# Altium schematic symbol library CPU_NXP_IMX.SchLib: 18 symbols (part 4 of 4)
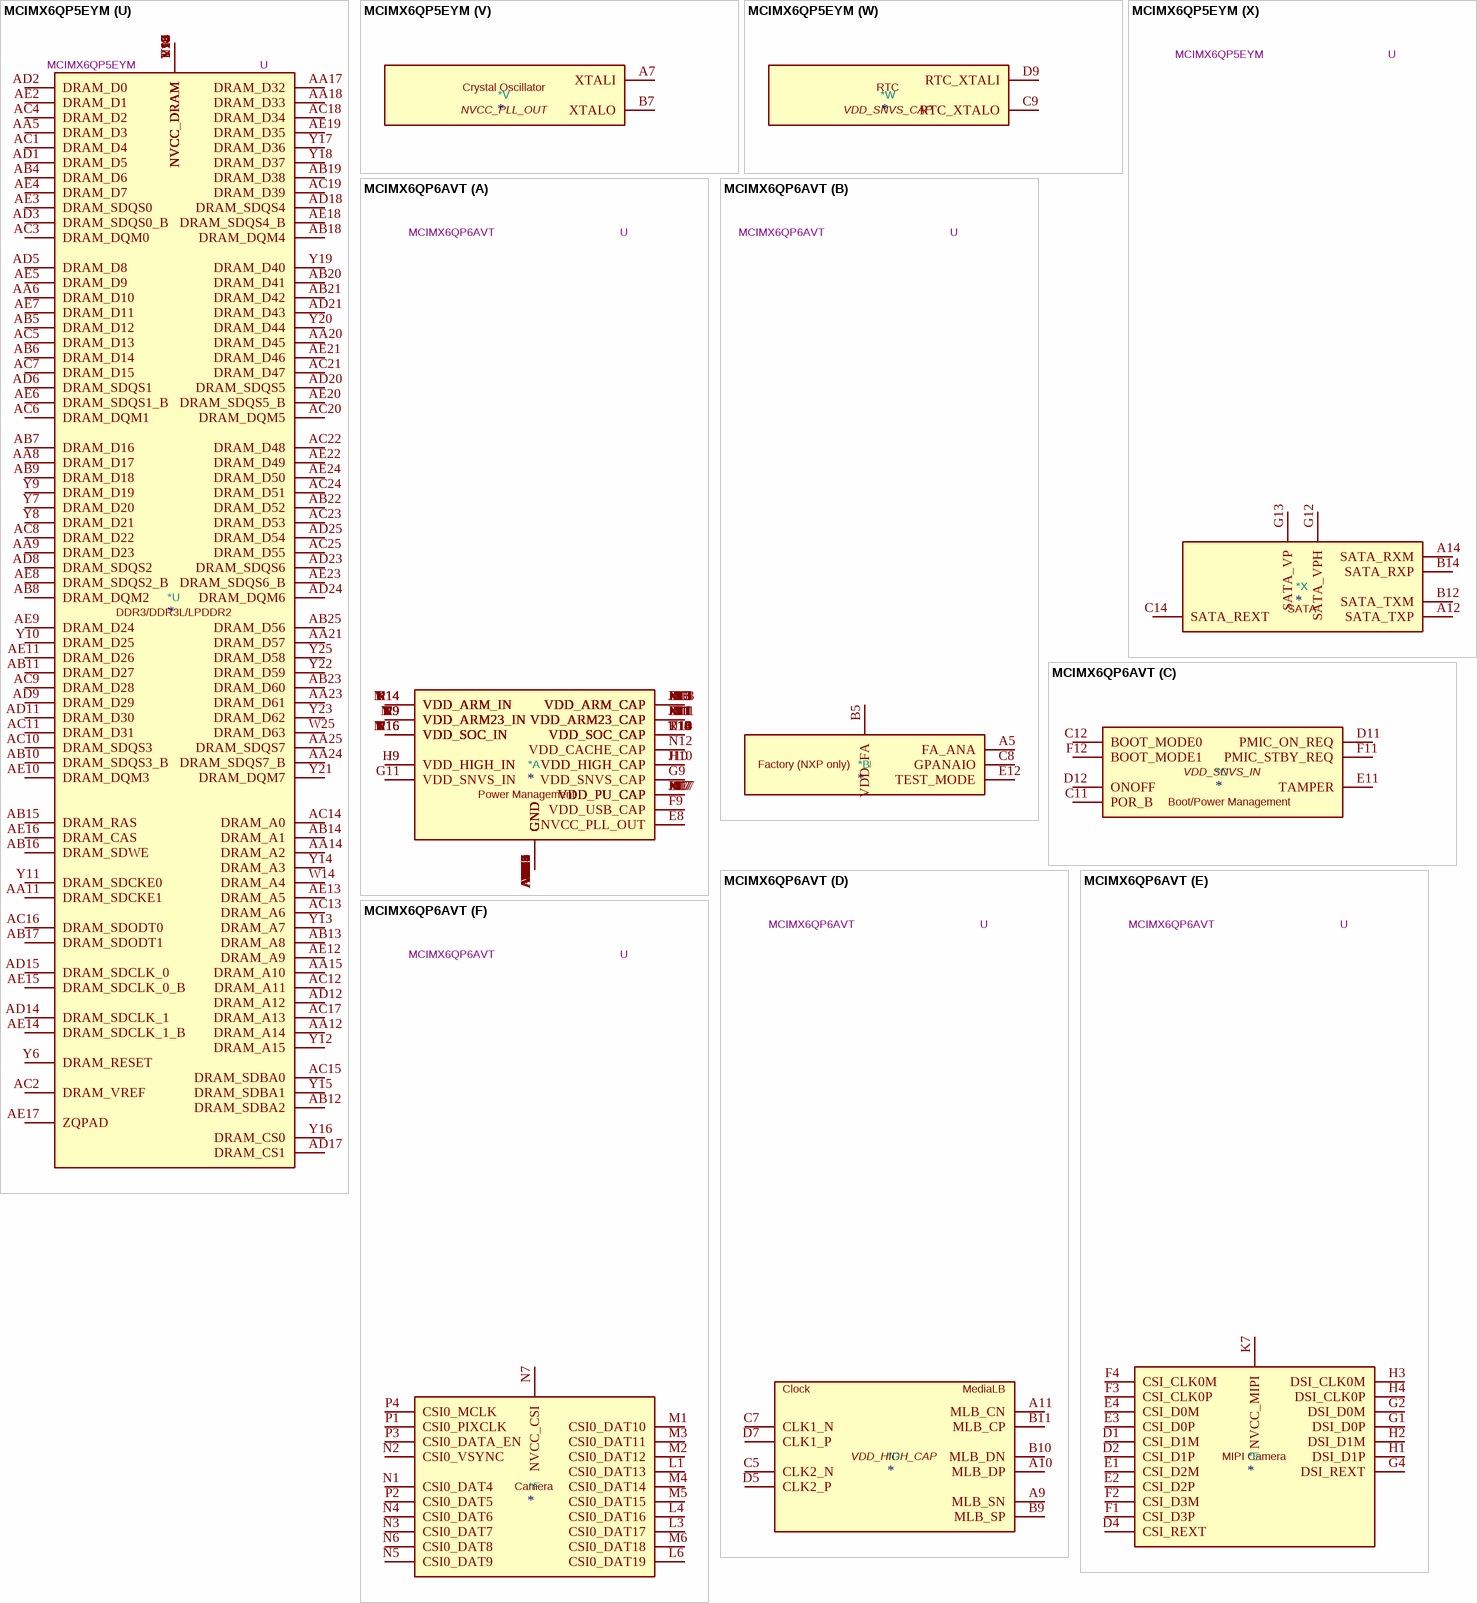
[diagram p57: symbols MCIMX6QP5EYM to MCIMX6QP6AVT]

## MCIMX6QP5EYM
designator *  value MCIMX6QP5EYM  Reference: U
i.MX 6QuadPlus Application Processor for Consumer Products, BGA-624; ki_keywords: Quad-Core ARM Cortex A9 SOC; ki_fp_filters: BGA*21x21mm*Layout25x25*P0.8mm*; Footprint: Package_BGA:BGA-624_21x21mm_Layout25x25_P0.8mm; Datasheet: https://www.nxp.com/docs/en/data-sheet/IMX6DQPCEC.pdf; Description_: i.MX 6QuadPlus Application Processor for Consumer Products, BGA-624
part A pins: A4 GND, A8 GND, A13 GND, A25 GND, AA7 GND, AA10 GND, AA13 GND, AA16 GND, AA19 GND, AA22 GND, AB3 GND, AB24 GND, AD4 GND, AD7 GND, AD10 GND, AD13 GND, AD16 GND, AD19 GND, AD22 GND, AE1 GND, AE25 GND, B4 GND, C1 GND, C4 GND, C6 GND, C10 GND, D3 GND, D6 GND, D8 GND, E5 GND, E6 GND, E7 GND, E8 NVCC_PLL_OUT, F5 GND, F6 GND, F7 GND, F8 GND, F9 VDD_USB_CAP, G3 GND, G9 VDD_SNVS_CAP, G10 GND, G11 VDD_SNVS_IN, G19 GND, H8 GND, H9 VDD_HIGH_IN, H10 VDD_HIGH_CAP, H11 VDD_ARM23_CAP, H12 GND, H13 VDD_ARM_CAP, H14 VDD_ARM_IN, H15 GND, H16 VDD_SOC_IN, H17 VDD_PU_CAP, H18 GND, J2 GND, J8 GND, J9 VDD_HIGH_IN, J10 VDD_HIGH_CAP, J11 VDD_ARM23_CAP, J12 GND, J13 VDD_ARM_CAP, J14 VDD_ARM_IN, J15 GND, J16 VDD_SOC_IN, J17 VDD_PU_CAP, J18 GND, K8 GND, K9 VDD_ARM23_IN, K10 GND, K11 VDD_ARM23_CAP, K12 GND, K13 VDD_ARM_CAP, K14 VDD_ARM_IN, K15 GND, K16 VDD_SOC_IN, K17 VDD_PU_CAP, K18 GND, L2 GND, L5 GND, L8 GND, L9 VDD_ARM23_IN, L10 GND, L11 VDD_ARM23_CAP, L12 GND, L13 VDD_ARM_CAP, L14 VDD_ARM_IN, L15 GND, L16 VDD_SOC_IN, L17 VDD_PU_CAP, L18 GND, M8 GND, M9 VDD_ARM23_IN, M10 GND, M11 VDD_ARM23_CAP, M12 GND, M13 VDD_ARM_CAP, M14 VDD_ARM_IN, M15 GND, M16 VDD_SOC_IN, M17 VDD_PU_CAP, M18 GND, N8 GND, N9 VDD_ARM23_IN, N10 GND, N11 VDD_ARM23_CAP, N12 VDD_CACHE_CAP, N13 VDD_ARM_CAP, N14 VDD_ARM_IN, N15 GND, N16 VDD_SOC_IN, N17 VDD_PU_CAP, N18 GND, P8 GND, P9 VDD_ARM23_IN, P10 GND, P11 VDD_ARM23_CAP, P12 GND, P13 VDD_ARM_CAP, P14 VDD_ARM_IN, P15 GND, P16 VDD_SOC_IN, P17 VDD_PU_CAP, P18 GND, R8 GND, R9 VDD_ARM23_IN, R10 VDD_SOC_CAP, R11 VDD_ARM23_CAP, R12 GND, R13 VDD_ARM_CAP, R14 VDD_ARM_IN, R15 GND, R16 VDD_SOC_IN, R17 GND, T8 GND, T9 VDD_ARM23_IN, T10 VDD_SOC_CAP, T11 GND, T12 GND, T13 VDD_SOC_CAP, T14 VDD_SOC_CAP, T15 GND, T16 VDD_SOC_IN, T17 GND, T19 GND, U8 GND, U9 VDD_ARM23_IN, U10 VDD_SOC_CAP, U11 GND, U12 GND, U13 VDD_SOC_CAP, U14 VDD_SOC_CAP, U15 GND, U16 VDD_SOC_IN, U17 GND, U19 GND, V8 GND, V19 GND, W3 GND, W7 GND, W8 GND, W9 GND, W10 GND, W11 GND, W12 GND, W13 GND, W15 GND, W16 GND, W17 GND, W18 GND, W19 GND, Y5 GND, Y24 GND
part B pins: A5 FA_ANA, B5 VDD_FA, C8 GPANAIO, E12 TEST_MODE
part C pins: C11 POR_B, C12 BOOT_MODE0, D11 PMIC_ON_REQ, D12 ONOFF, E11 TAMPER, F11 PMIC_STBY_REQ, F12 BOOT_MODE1
part D pins: A9 MLB_SN, A10 MLB_DP, A11 MLB_CN, B9 MLB_SP, B10 MLB_DN, B11 MLB_CP, C5 CLK2_N, C7 CLK1_N, D5 CLK2_P, D7 CLK1_P
part E pins: D1 CSI_D1M, D2 CSI_D1P, D4 CSI_REXT, E1 CSI_D2M, E2 CSI_D2P, E3 CSI_D0P, E4 CSI_D0M, F1 CSI_D3P, F2 CSI_D3M, F3 CSI_CLK0P, F4 CSI_CLK0M, G1 DSI_D0P, G2 DSI_D0M, G4 DSI_REXT, H1 DSI_D1P, H2 DSI_D1M, H3 DSI_CLK0M, H4 DSI_CLK0P, K7 NVCC_MIPI
part F pins: L1 CSI0_DAT13, L3 CSI0_DAT17, L4 CSI0_DAT16, L6 CSI0_DAT19, M1 CSI0_DAT10, M2 CSI0_DAT12, M3 CSI0_DAT11, M4 CSI0_DAT14, M5 CSI0_DAT15, M6 CSI0_DAT18, N1 CSI0_DAT4, N2 CSI0_VSYNC, N3 CSI0_DAT7, N4 CSI0_DAT6, N5 CSI0_DAT9, N6 CSI0_DAT8, N7 NVCC_CSI, P1 CSI0_PIXCLK, P2 CSI0_DAT5, P3 CSI0_DATA_EN, P4 CSI0_MCLK
part G pins: N19 DI0_DISP_CLK, N20 DI0_PIN3, N21 DI0_PIN15, N25 DI0_PIN2, P19 NVCC_LCD, P20 DISP0_DAT4, P21 DISP0_DAT3, P22 DISP0_DAT1, P23 DISP0_DAT2, P24 DISP0_DAT0, P25 DI0_PIN4, R20 DISP0_DAT13, R21 DISP0_DAT10, R22 DISP0_DAT8, R23 DISP0_DAT6, R24 DISP0_DAT7, R25 DISP0_DAT5, T20 DISP0_DAT21, T21 DISP0_DAT16, T22 DISP0_DAT15, T23 DISP0_DAT11, T24 DISP0_DAT12, T25 DISP0_DAT9, U22 DISP0_DAT20, U23 DISP0_DAT19, U24 DISP0_DAT17, U25 DISP0_DAT14, V24 DISP0_DAT22, V25 DISP0_DAT18, W24 DISP0_DAT23
part H pins: C25 EIM_D16, D24 EIM_D18, D25 EIM_D23, E22 EIM_EB2, E23 EIM_D22, E24 EIM_D26, E25 EIM_D27, F21 EIM_D17, F22 EIM_D24, F23 EIM_EB3, F24 EIM_A22, F25 EIM_A24, G20 EIM_D20, G21 EIM_D19, G22 EIM_D25, G23 EIM_D28, G24 EIM_A17, G25 EIM_A19, H19 EIM_A25, H20 EIM_D21, H21 EIM_D31, H22 EIM_A20, H23 EIM_A21, H24 EIM_CS0, H25 EIM_A16, J19 EIM_D29, J20 EIM_D30, J21 EIM_A23, J22 EIM_A18, J23 EIM_CS1, J24 EIM_OE, J25 EIM_DA1, K19 NVCC_EIM0, K20 EIM_RW, K21 EIM_EB0, K22 EIM_LBA, K23 EIM_EB1, K24 EIM_DA3, K25 EIM_DA6, L19 NVCC_EIM1, L20 EIM_DA0, L21 EIM_DA2, L22 EIM_DA4, L23 EIM_DA5, L24 EIM_DA8, L25 EIM_DA7, M19 NVCC_EIM2, M20 EIM_DA11, M21 EIM_DA9, M22 EIM_DA10, M23 EIM_DA13, M24 EIM_DA12, M25 EIM_WAIT, N22 EIM_BCLK, N23 EIM_DA14, N24 EIM_DA15
part I pins: R19 NVCC_ENET, U20 ENET_TXD0, U21 ENET_CRS_DV, V20 ENET_MDC, V21 ENET_TX_EN, V22 ENET_REF_CLK, V23 ENET_MDIO, W20 ENET_TXD1, W21 ENET_RXD0, W22 ENET_RXD1, W23 ENET_RX_ER
part J pins: P5 GPIO_19, P6 GPIO_18, P7 NVCC_GPIO, R1 GPIO_17, R2 GPIO_16, R3 GPIO_7, R4 GPIO_5, R5 GPIO_8, R6 GPIO_4, R7 GPIO_3, T1 GPIO_2, T2 GPIO_9, T3 GPIO_6, T4 GPIO_1, T5 GPIO_0, T6 KEY_COL4, T7 KEY_ROW3, U5 KEY_COL3, U6 KEY_ROW1, U7 KEY_COL1, V5 KEY_ROW4, V6 KEY_ROW0, W4 KEY_ROW2, W5 KEY_COL0, W6 KEY_COL2
part K pins: J1 HDMI_REF, J3 HDMI_D1M, J4 HDMI_D1P, J5 HDMI_CLKM, J6 HDMI_CLKP, K1 HDMI_HPD, K2 HDMI_DDCCEC, K3 HDMI_D2M, K4 HDMI_D2P, K5 HDMI_D0M, K6 HDMI_D0P, L7 HDMI_VP, M7 HDMI_VPH
part L pins: C2 JTAG_TRSTB, C3 JTAG_TMS, G5 JTAG_TDI, G6 JTAG_TDO, H5 JTAG_TCK, H6 JTAG_MOD, J7 NVCC_JTAG
part M pins: AA1 LVDS1_TX1_P, AA2 LVDS1_TX1_N, AA3 LVDS1_TX3_N, AA4 LVDS1_TX3_P, AB1 LVDS1_TX2_N, AB2 LVDS1_TX2_P, U1 LVDS0_TX0_P, U2 LVDS0_TX0_N, U3 LVDS0_TX1_P, U4 LVDS0_TX1_N, V1 LVDS0_TX2_P, V2 LVDS0_TX2_N, V3 LVDS0_CLK_P, V4 LVDS0_CLK_N, V7 NVCC_LVDS2P5, W1 LVDS0_TX3_P, W2 LVDS0_TX3_N, Y1 LVDS1_TX0_N, Y2 LVDS1_TX0_P, Y3 LVDS1_CLK_N, Y4 LVDS1_CLK_P
part N pins: A16 NANDF_ALE, A17 NANDF_CS2, A18 NANDF_D0, A19 NANDF_D4, A20 SD4_DAT3, B16 NANDF_RB0, B17 SD4_CMD, B18 NANDF_D5, B19 SD4_DAT1, B20 SD4_DAT6, C15 NANDF_CLE, C16 NANDF_CS1, C17 NANDF_D1, C18 NANDF_D7, C19 SD4_DAT5, D16 NANDF_CS3, D17 NANDF_D3, D18 SD4_DAT0, D19 SD4_DAT7, E15 NANDF_WP_B, E16 SD4_CLK, E17 NANDF_D6, E18 SD4_DAT4, F15 NANDF_CS0, F16 NANDF_D2, F17 SD4_DAT2, G15 NVCC_NANDF
part O pins: A2 PCIE_REXT, A3 PCIE_TXM, B1 PCIE_RXM, B2 PCIE_RXP, B3 PCIE_TXP, G7 PCIE_VPH, G8 PCIE_VPTX, H7 PCIE_VP
part P pins: A6 USB_OTG_DP, B6 USB_OTG_DN, B8 USB_OTG_CHD_B, D10 USB_H1_VBUS, E9 USB_OTG_VBUS, E10 USB_H1_DP, F10 USB_H1_DN
part Q pins: A24 RGMII_TD3, B23 RGMII_RD1, B24 RGMII_RD2, B25 RGMII_RXC, C22 RGMII_TD0, C23 RGMII_TX_CTL, C24 RGMII_RD0, D21 RGMII_TXC, D22 RGMII_RX_CTL, D23 RGMII_RD3, E21 RGMII_TD2, F20 RGMII_TD1, G18 NVCC_RGMII
part R pins: A21 SD1_DAT0, B21 SD1_CMD, C20 SD1_DAT1, D20 SD1_CLK, E19 SD1_DAT2, F18 SD1_DAT3, G16 NVCC_SD1
part S pins: A22 SD2_DAT0, A23 SD2_DAT2, B22 SD2_DAT3, C21 SD2_CLK, E20 SD2_DAT1, F19 SD2_CMD, G17 NVCC_SD2
part T pins: A15 SD3_DAT2, B13 SD3_CMD, B15 SD3_DAT3, C13 SD3_DAT5, D13 SD3_DAT4, D14 SD3_CLK, D15 SD3_RST, E13 SD3_DAT6, E14 SD3_DAT0, F13 SD3_DAT7, F14 SD3_DAT1, G14 NVCC_SD3
part U pins: AA5 DRAM_D3, AA6 DRAM_D10, AA8 DRAM_D17, AA9 DRAM_D23, AA11 DRAM_SDCKE1, AA12 DRAM_A14, AA14 DRAM_A2, AA15 DRAM_A10, AA17 DRAM_D32, AA18 DRAM_D33, AA20 DRAM_D45, AA21 DRAM_D57, AA23 DRAM_D61, AA24 DRAM_SDQS7_B, AA25 DRAM_SDQS7, AB4 DRAM_D6, AB5 DRAM_D12, AB6 DRAM_D14, AB7 DRAM_D16, AB8 DRAM_DQM2, AB9 DRAM_D18, AB10 DRAM_SDQS3_B, AB11 DRAM_D27, AB12 DRAM_SDBA2, AB13 DRAM_A8, AB14 DRAM_A1, AB15 DRAM_RAS, AB16 DRAM_SDWE, AB17 DRAM_SDODT1, AB18 DRAM_DQM4, AB19 DRAM_D38, AB20 DRAM_D41, AB21 DRAM_D42, AB22 DRAM_D52, AB23 DRAM_D60, AB25 DRAM_D56, AC1 DRAM_D4, AC2 DRAM_VREF, AC3 DRAM_DQM0, AC4 DRAM_D2, AC5 DRAM_D13, AC6 DRAM_DQM1, AC7 DRAM_D15, AC8 DRAM_D22, AC9 DRAM_D28, AC10 DRAM_SDQS3, AC11 DRAM_D31, AC12 DRAM_A11, AC13 DRAM_A6, AC14 DRAM_A0, AC15 DRAM_SDBA0, AC16 DRAM_SDODT0, AC17 DRAM_A13, AC18 DRAM_D34, AC19 DRAM_D39, AC20 DRAM_DQM5, AC21 DRAM_D47, AC22 DRAM_D48, AC23 DRAM_D53, AC24 DRAM_D51, AC25 DRAM_D55, AD1 DRAM_D5, AD2 DRAM_D0, AD3 DRAM_SDQS0_B, AD5 DRAM_D8, AD6 DRAM_SDQS1, AD8 DRAM_SDQS2, AD9 DRAM_D29, AD11 DRAM_D30, AD12 DRAM_A12, AD14 DRAM_SDCLK_1, AD15 DRAM_SDCLK_0, AD17 DRAM_CS1, AD18 DRAM_SDQS4, AD20 DRAM_SDQS5, AD21 DRAM_D43, AD23 DRAM_SDQS6, AD24 DRAM_DQM6, AD25 DRAM_D54, AE2 DRAM_D1, AE3 DRAM_SDQS0, AE4 DRAM_D7, AE5 DRAM_D9, AE6 DRAM_SDQS1_B, AE7 DRAM_D11, AE8 DRAM_SDQS2_B, AE9 DRAM_D24, AE10 DRAM_DQM3, AE11 DRAM_D26, AE12 DRAM_A9, AE13 DRAM_A5, AE14 DRAM_SDCLK_1_B, AE15 DRAM_SDCLK_0_B, AE16 DRAM_CAS, AE17 ZQPAD, AE18 DRAM_SDQS4_B, AE19 DRAM_D35, AE20 DRAM_SDQS5_B, AE21 DRAM_D46, AE22 DRAM_D49, AE23 DRAM_SDQS6_B, AE24 DRAM_D50, R18 NVCC_DRAM, T18 NVCC_DRAM, U18 NVCC_DRAM, V9 NVCC_DRAM, V10 NVCC_DRAM, V11 NVCC_DRAM, V12 NVCC_DRAM, V13 NVCC_DRAM, V14 NVCC_DRAM, V15 NVCC_DRAM, V16 NVCC_DRAM, V17 NVCC_DRAM, V18 NVCC_DRAM, W14 DRAM_A4, W25 DRAM_D63, Y6 DRAM_RESET, Y7 DRAM_D20, Y8 DRAM_D21, Y9 DRAM_D19, Y10 DRAM_D25, Y11 DRAM_SDCKE0, Y12 DRAM_A15, Y13 DRAM_A7, Y14 DRAM_A3, Y15 DRAM_SDBA1, Y16 DRAM_CS0, Y17 DRAM_D36, Y18 DRAM_D37, Y19 DRAM_D40, Y20 DRAM_D44, Y21 DRAM_DQM7, Y22 DRAM_D59, Y23 DRAM_D62, Y25 DRAM_D58
part V pins: A7 XTALI, B7 XTALO
part W pins: C9 RTC_XTALO, D9 RTC_XTALI
part X pins: A12 SATA_TXP, A14 SATA_RXM, B12 SATA_TXM, B14 SATA_RXP, C14 SATA_REXT, G12 SATA_VPH, G13 SATA_VP
part A text: Power Management
part B text: Factory (NXP only)
part C text: Boot/Power Management
part D text: Clock; MediaLB
part E text: MIPI Camera
part F text: Camera
part G text: LCD Display
part H text: External memory
part I text: 10/100-Mbit Ethernet
part J text: GPIO
part K text: HDMI Display
part L text: JTAG Debug
part M text: LVDS Display
part N text: NAND Flash; SD/MMC
part O text: PCIe 2.0
part P text: HS USB2.0 Host; HS USB2.0 OTG
part Q text: Gigabit Ethernet
part R text: SD/MMC
part S text: SD/MMC
part T text: SD/MMC
part U text: DDR3/DDR3L/LPDDR2
part V text: Crystal Oscillator
part W text: RTC
part X text: SATA

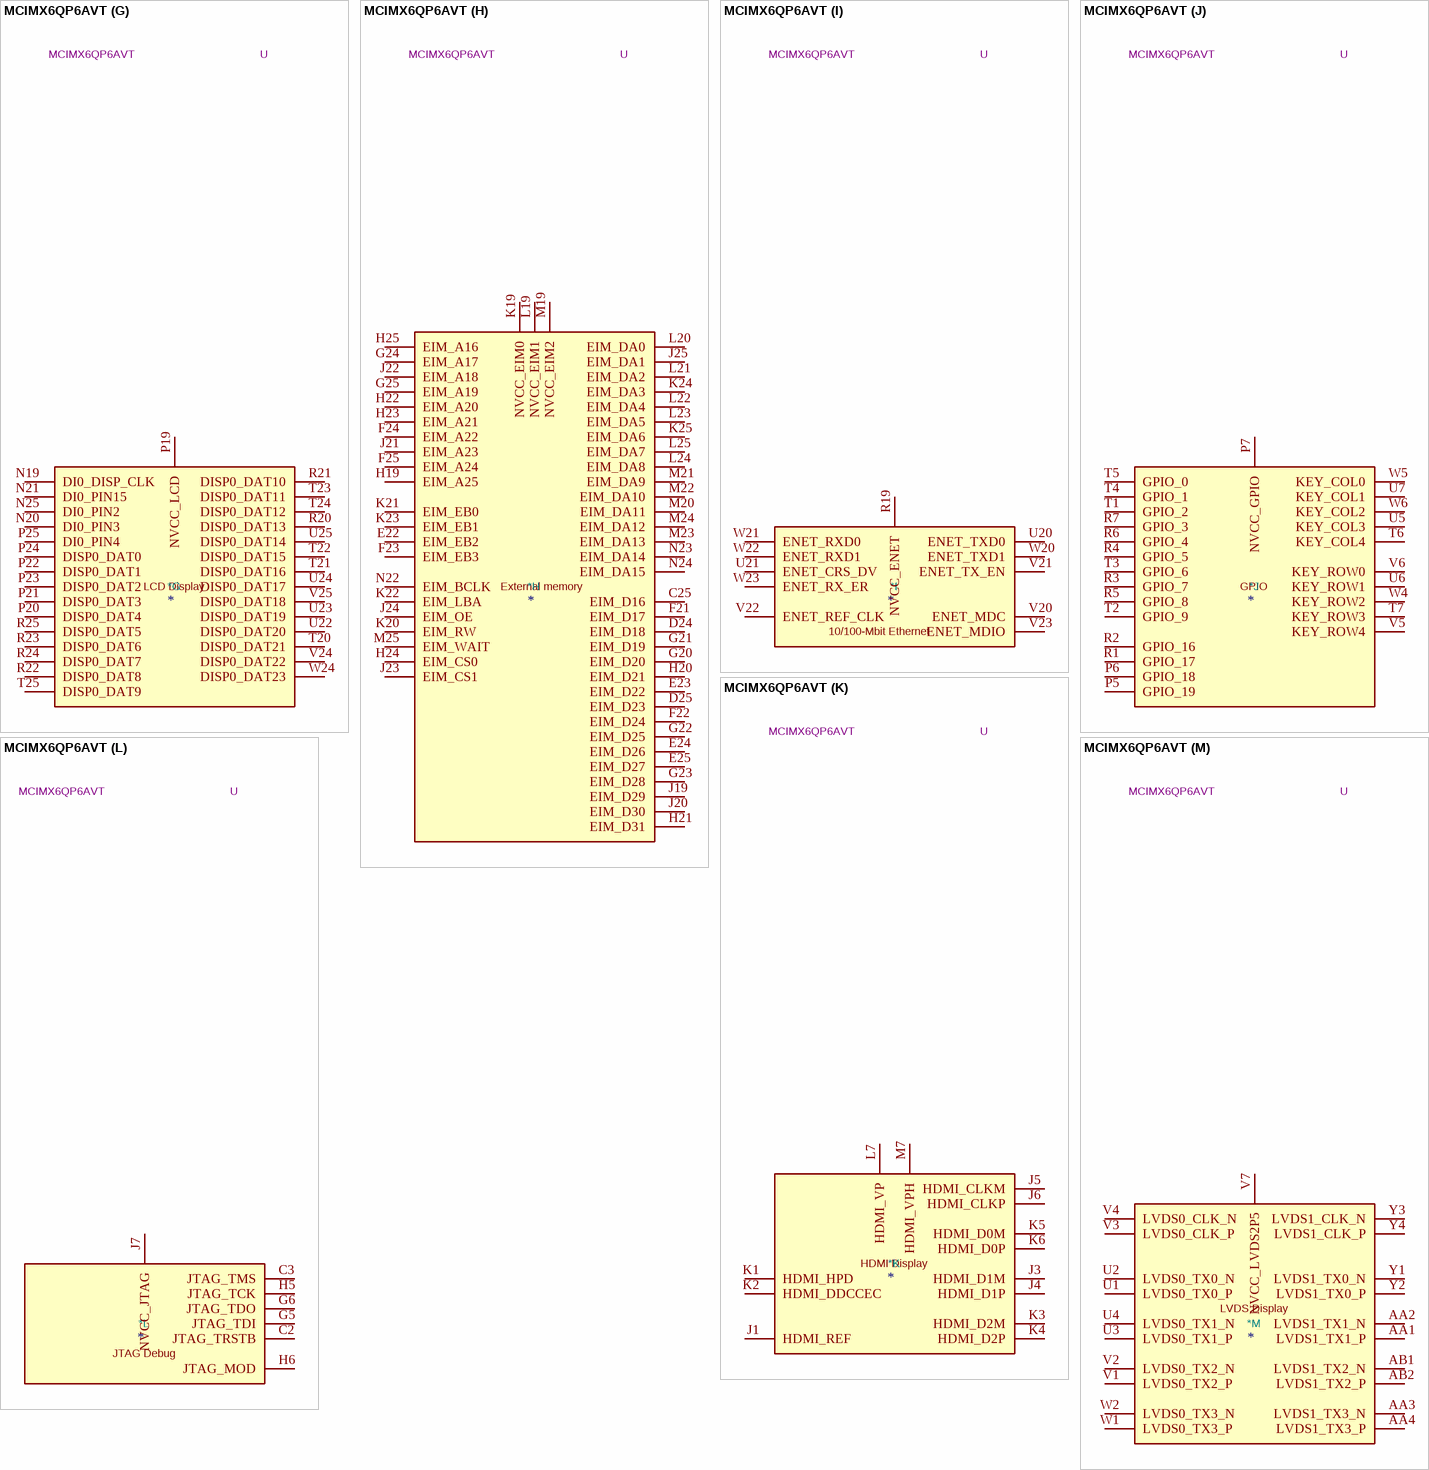
[diagram p49: symbol MCIMX6QP6AVT]

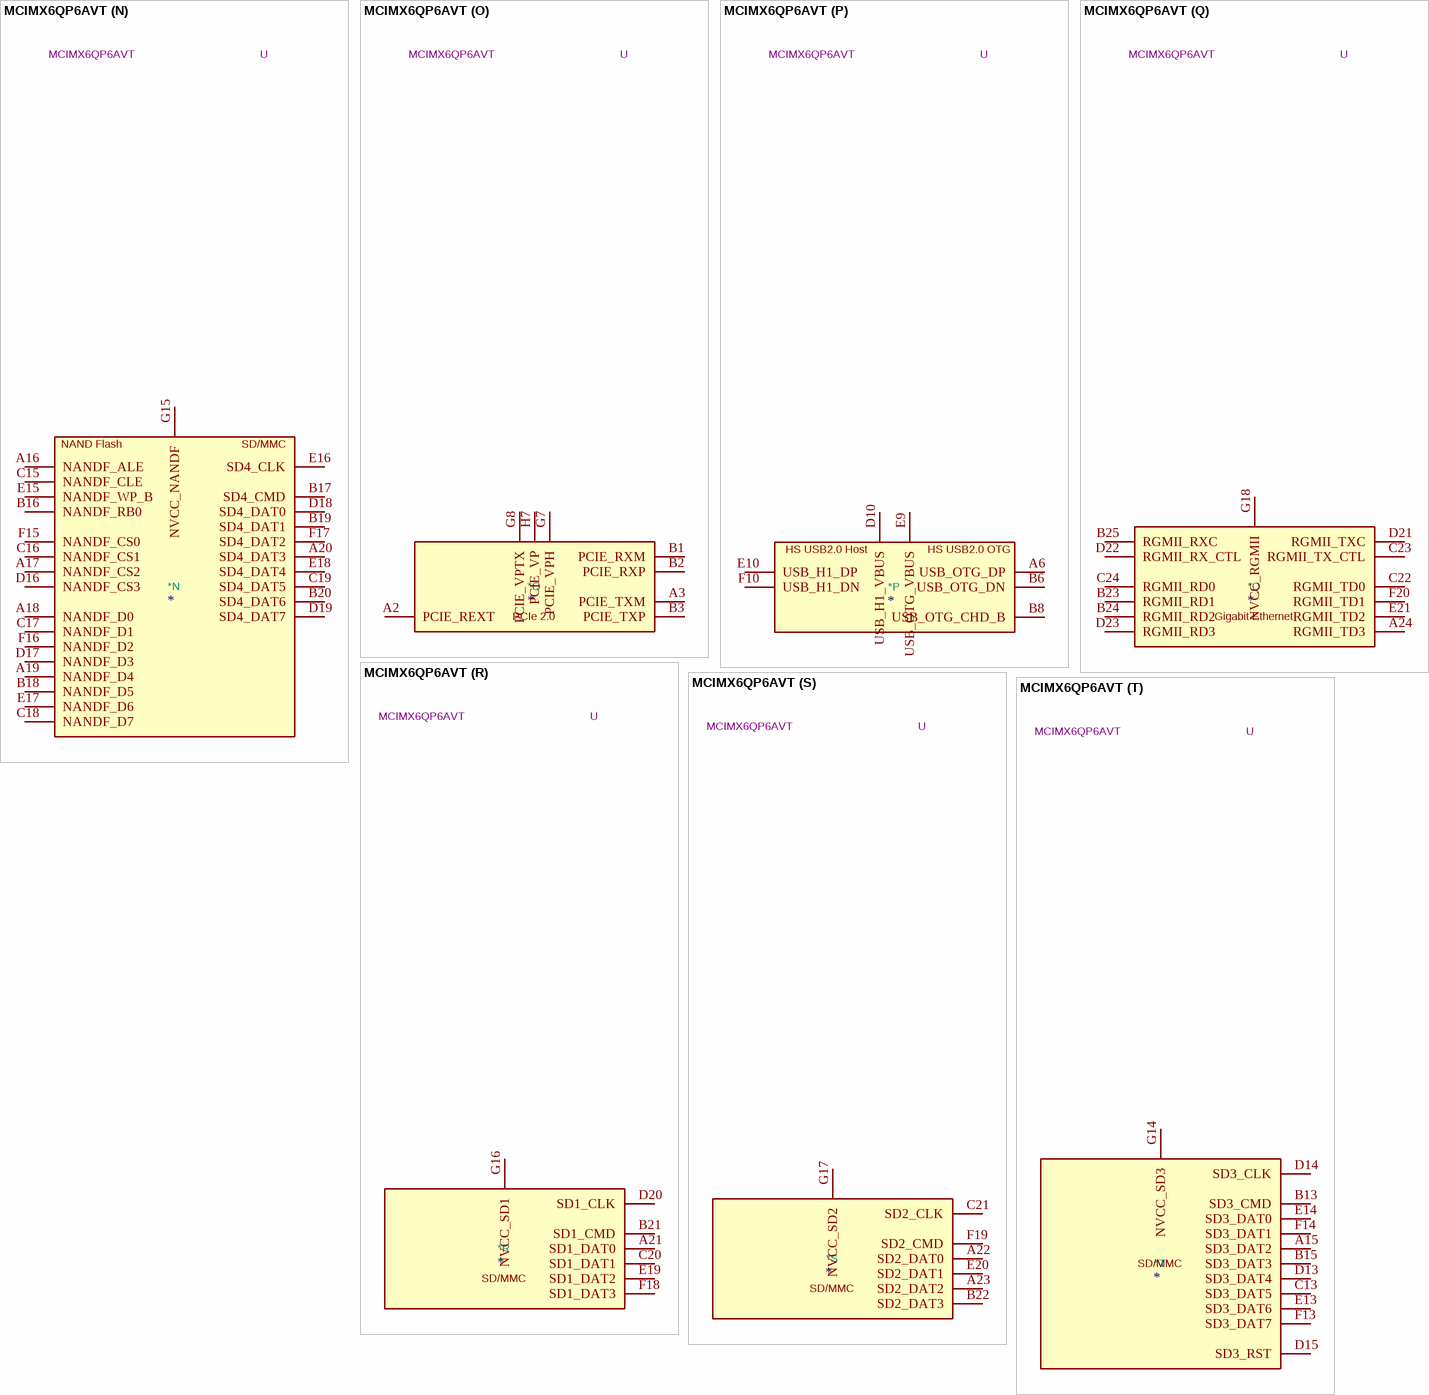
[diagram p50: symbol MCIMX6QP6AVT]

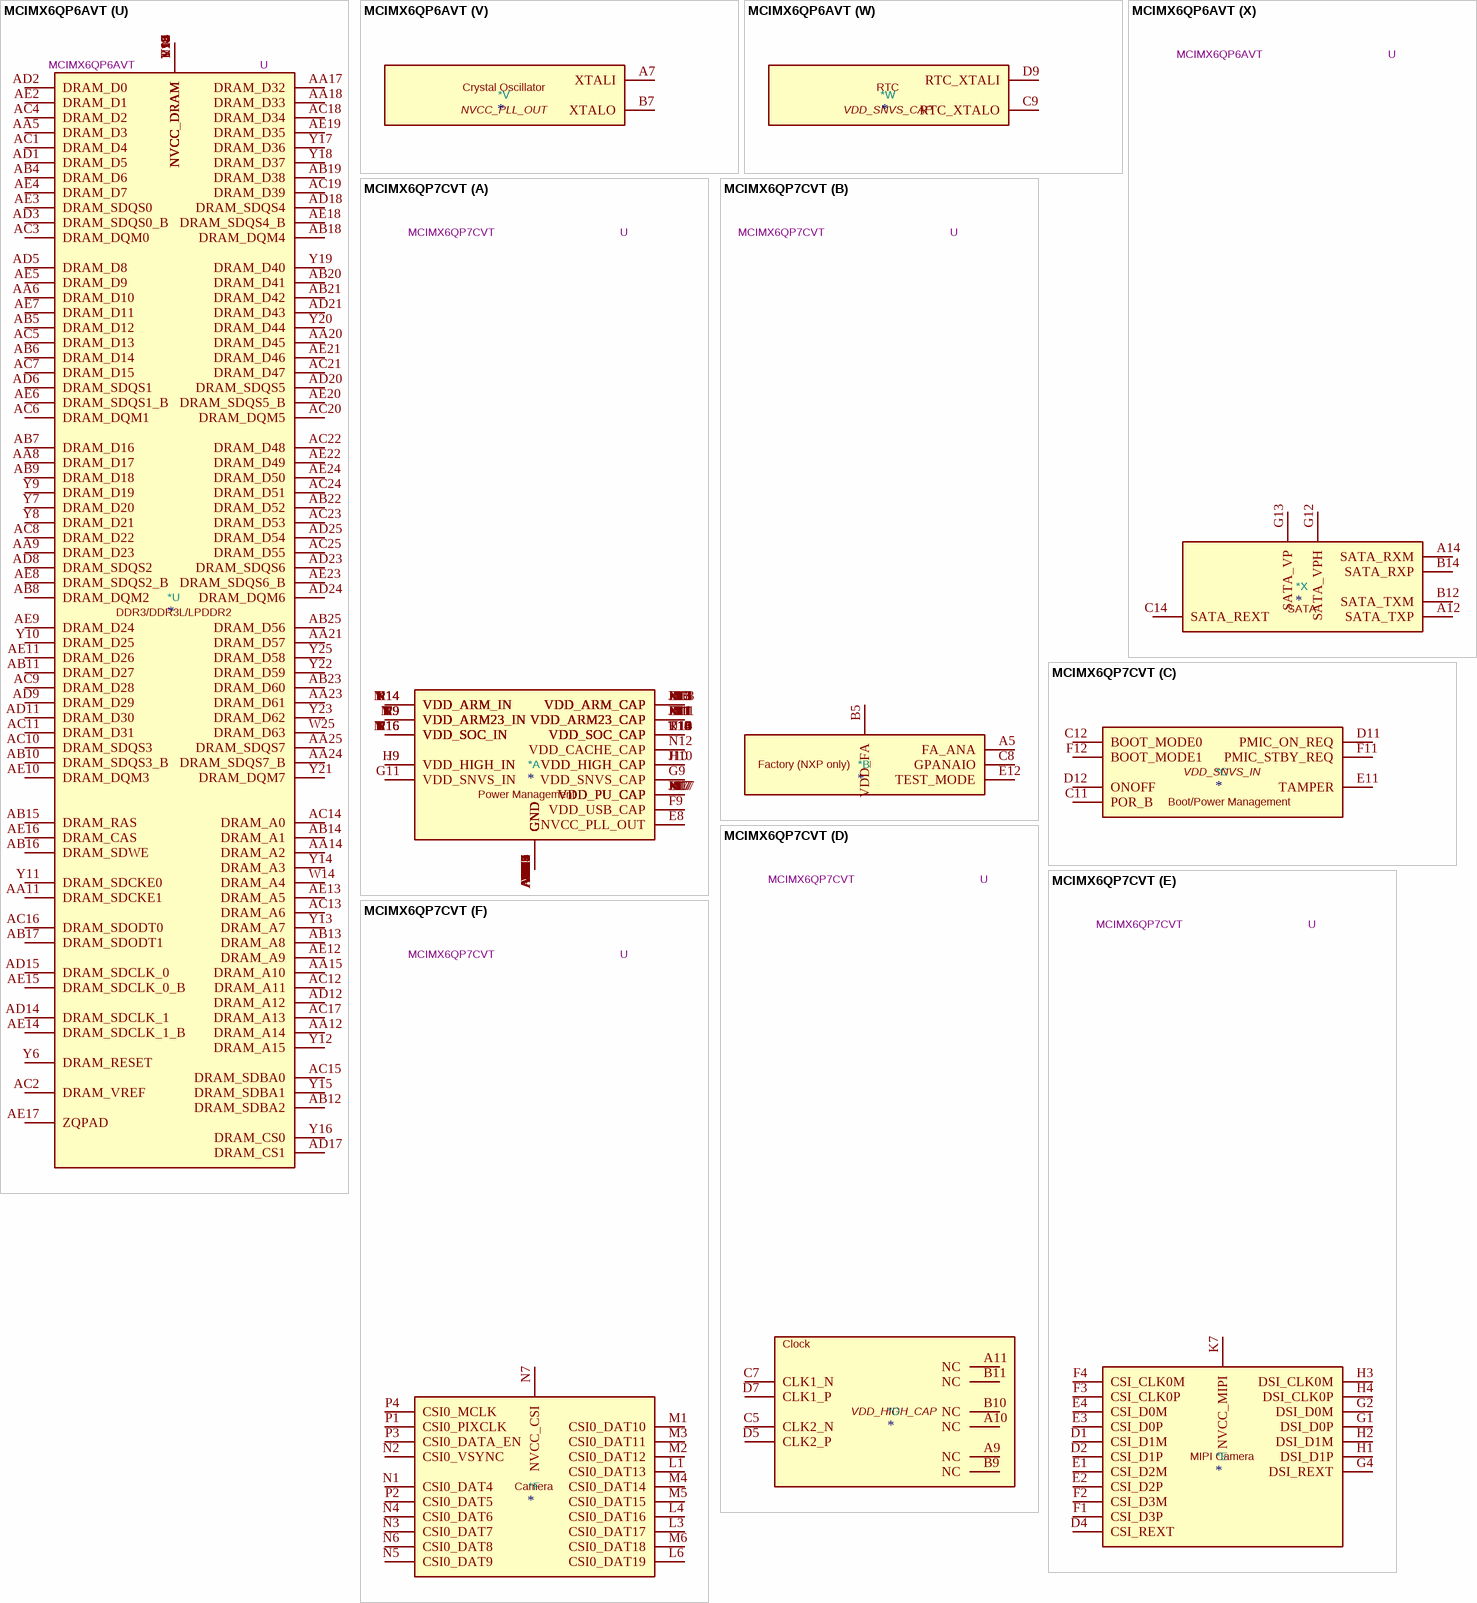
[diagram p51: symbols MCIMX6QP6AVT to MCIMX6QP7CVT]

## MCIMX6QP6AVT
designator *  value MCIMX6QP6AVT  Reference: U
i.MX 6QuadPlus Automotive and Infotainment Application Processor, BGA-624; ki_keywords: Quad-Core ARM Cortex A9 SOC Automotive; ki_fp_filters: BGA*21x21mm*Layout25x25*P0.8mm*; Footprint: Package_BGA:BGA-624_21x21mm_Layout25x25_P0.8mm; Datasheet: https://www.nxp.com/docs/en/data-sheet/IMX6DQPAEC.pdf; Description_: i.MX 6QuadPlus Automotive and Infotainment Application Processor, BGA-624
part A pins: A4 GND, A8 GND, A13 GND, A25 GND, AA7 GND, AA10 GND, AA13 GND, AA16 GND, AA19 GND, AA22 GND, AB3 GND, AB24 GND, AD4 GND, AD7 GND, AD10 GND, AD13 GND, AD16 GND, AD19 GND, AD22 GND, AE1 GND, AE25 GND, B4 GND, C1 GND, C4 GND, C6 GND, C10 GND, D3 GND, D6 GND, D8 GND, E5 GND, E6 GND, E7 GND, E8 NVCC_PLL_OUT, F5 GND, F6 GND, F7 GND, F8 GND, F9 VDD_USB_CAP, G3 GND, G9 VDD_SNVS_CAP, G10 GND, G11 VDD_SNVS_IN, G19 GND, H8 GND, H9 VDD_HIGH_IN, H10 VDD_HIGH_CAP, H11 VDD_ARM23_CAP, H12 GND, H13 VDD_ARM_CAP, H14 VDD_ARM_IN, H15 GND, H16 VDD_SOC_IN, H17 VDD_PU_CAP, H18 GND, J2 GND, J8 GND, J9 VDD_HIGH_IN, J10 VDD_HIGH_CAP, J11 VDD_ARM23_CAP, J12 GND, J13 VDD_ARM_CAP, J14 VDD_ARM_IN, J15 GND, J16 VDD_SOC_IN, J17 VDD_PU_CAP, J18 GND, K8 GND, K9 VDD_ARM23_IN, K10 GND, K11 VDD_ARM23_CAP, K12 GND, K13 VDD_ARM_CAP, K14 VDD_ARM_IN, K15 GND, K16 VDD_SOC_IN, K17 VDD_PU_CAP, K18 GND, L2 GND, L5 GND, L8 GND, L9 VDD_ARM23_IN, L10 GND, L11 VDD_ARM23_CAP, L12 GND, L13 VDD_ARM_CAP, L14 VDD_ARM_IN, L15 GND, L16 VDD_SOC_IN, L17 VDD_PU_CAP, L18 GND, M8 GND, M9 VDD_ARM23_IN, M10 GND, M11 VDD_ARM23_CAP, M12 GND, M13 VDD_ARM_CAP, M14 VDD_ARM_IN, M15 GND, M16 VDD_SOC_IN, M17 VDD_PU_CAP, M18 GND, N8 GND, N9 VDD_ARM23_IN, N10 GND, N11 VDD_ARM23_CAP, N12 VDD_CACHE_CAP, N13 VDD_ARM_CAP, N14 VDD_ARM_IN, N15 GND, N16 VDD_SOC_IN, N17 VDD_PU_CAP, N18 GND, P8 GND, P9 VDD_ARM23_IN, P10 GND, P11 VDD_ARM23_CAP, P12 GND, P13 VDD_ARM_CAP, P14 VDD_ARM_IN, P15 GND, P16 VDD_SOC_IN, P17 VDD_PU_CAP, P18 GND, R8 GND, R9 VDD_ARM23_IN, R10 VDD_SOC_CAP, R11 VDD_ARM23_CAP, R12 GND, R13 VDD_ARM_CAP, R14 VDD_ARM_IN, R15 GND, R16 VDD_SOC_IN, R17 GND, T8 GND, T9 VDD_ARM23_IN, T10 VDD_SOC_CAP, T11 GND, T12 GND, T13 VDD_SOC_CAP, T14 VDD_SOC_CAP, T15 GND, T16 VDD_SOC_IN, T17 GND, T19 GND, U8 GND, U9 VDD_ARM23_IN, U10 VDD_SOC_CAP, U11 GND, U12 GND, U13 VDD_SOC_CAP, U14 VDD_SOC_CAP, U15 GND, U16 VDD_SOC_IN, U17 GND, U19 GND, V8 GND, V19 GND, W3 GND, W7 GND, W8 GND, W9 GND, W10 GND, W11 GND, W12 GND, W13 GND, W15 GND, W16 GND, W17 GND, W18 GND, W19 GND, Y5 GND, Y24 GND
part B pins: A5 FA_ANA, B5 VDD_FA, C8 GPANAIO, E12 TEST_MODE
part C pins: C11 POR_B, C12 BOOT_MODE0, D11 PMIC_ON_REQ, D12 ONOFF, E11 TAMPER, F11 PMIC_STBY_REQ, F12 BOOT_MODE1
part D pins: A9 MLB_SN, A10 MLB_DP, A11 MLB_CN, B9 MLB_SP, B10 MLB_DN, B11 MLB_CP, C5 CLK2_N, C7 CLK1_N, D5 CLK2_P, D7 CLK1_P
part E pins: D1 CSI_D1M, D2 CSI_D1P, D4 CSI_REXT, E1 CSI_D2M, E2 CSI_D2P, E3 CSI_D0P, E4 CSI_D0M, F1 CSI_D3P, F2 CSI_D3M, F3 CSI_CLK0P, F4 CSI_CLK0M, G1 DSI_D0P, G2 DSI_D0M, G4 DSI_REXT, H1 DSI_D1P, H2 DSI_D1M, H3 DSI_CLK0M, H4 DSI_CLK0P, K7 NVCC_MIPI
part F pins: L1 CSI0_DAT13, L3 CSI0_DAT17, L4 CSI0_DAT16, L6 CSI0_DAT19, M1 CSI0_DAT10, M2 CSI0_DAT12, M3 CSI0_DAT11, M4 CSI0_DAT14, M5 CSI0_DAT15, M6 CSI0_DAT18, N1 CSI0_DAT4, N2 CSI0_VSYNC, N3 CSI0_DAT7, N4 CSI0_DAT6, N5 CSI0_DAT9, N6 CSI0_DAT8, N7 NVCC_CSI, P1 CSI0_PIXCLK, P2 CSI0_DAT5, P3 CSI0_DATA_EN, P4 CSI0_MCLK
part G pins: N19 DI0_DISP_CLK, N20 DI0_PIN3, N21 DI0_PIN15, N25 DI0_PIN2, P19 NVCC_LCD, P20 DISP0_DAT4, P21 DISP0_DAT3, P22 DISP0_DAT1, P23 DISP0_DAT2, P24 DISP0_DAT0, P25 DI0_PIN4, R20 DISP0_DAT13, R21 DISP0_DAT10, R22 DISP0_DAT8, R23 DISP0_DAT6, R24 DISP0_DAT7, R25 DISP0_DAT5, T20 DISP0_DAT21, T21 DISP0_DAT16, T22 DISP0_DAT15, T23 DISP0_DAT11, T24 DISP0_DAT12, T25 DISP0_DAT9, U22 DISP0_DAT20, U23 DISP0_DAT19, U24 DISP0_DAT17, U25 DISP0_DAT14, V24 DISP0_DAT22, V25 DISP0_DAT18, W24 DISP0_DAT23
part H pins: C25 EIM_D16, D24 EIM_D18, D25 EIM_D23, E22 EIM_EB2, E23 EIM_D22, E24 EIM_D26, E25 EIM_D27, F21 EIM_D17, F22 EIM_D24, F23 EIM_EB3, F24 EIM_A22, F25 EIM_A24, G20 EIM_D20, G21 EIM_D19, G22 EIM_D25, G23 EIM_D28, G24 EIM_A17, G25 EIM_A19, H19 EIM_A25, H20 EIM_D21, H21 EIM_D31, H22 EIM_A20, H23 EIM_A21, H24 EIM_CS0, H25 EIM_A16, J19 EIM_D29, J20 EIM_D30, J21 EIM_A23, J22 EIM_A18, J23 EIM_CS1, J24 EIM_OE, J25 EIM_DA1, K19 NVCC_EIM0, K20 EIM_RW, K21 EIM_EB0, K22 EIM_LBA, K23 EIM_EB1, K24 EIM_DA3, K25 EIM_DA6, L19 NVCC_EIM1, L20 EIM_DA0, L21 EIM_DA2, L22 EIM_DA4, L23 EIM_DA5, L24 EIM_DA8, L25 EIM_DA7, M19 NVCC_EIM2, M20 EIM_DA11, M21 EIM_DA9, M22 EIM_DA10, M23 EIM_DA13, M24 EIM_DA12, M25 EIM_WAIT, N22 EIM_BCLK, N23 EIM_DA14, N24 EIM_DA15
part I pins: R19 NVCC_ENET, U20 ENET_TXD0, U21 ENET_CRS_DV, V20 ENET_MDC, V21 ENET_TX_EN, V22 ENET_REF_CLK, V23 ENET_MDIO, W20 ENET_TXD1, W21 ENET_RXD0, W22 ENET_RXD1, W23 ENET_RX_ER
part J pins: P5 GPIO_19, P6 GPIO_18, P7 NVCC_GPIO, R1 GPIO_17, R2 GPIO_16, R3 GPIO_7, R4 GPIO_5, R5 GPIO_8, R6 GPIO_4, R7 GPIO_3, T1 GPIO_2, T2 GPIO_9, T3 GPIO_6, T4 GPIO_1, T5 GPIO_0, T6 KEY_COL4, T7 KEY_ROW3, U5 KEY_COL3, U6 KEY_ROW1, U7 KEY_COL1, V5 KEY_ROW4, V6 KEY_ROW0, W4 KEY_ROW2, W5 KEY_COL0, W6 KEY_COL2
part K pins: J1 HDMI_REF, J3 HDMI_D1M, J4 HDMI_D1P, J5 HDMI_CLKM, J6 HDMI_CLKP, K1 HDMI_HPD, K2 HDMI_DDCCEC, K3 HDMI_D2M, K4 HDMI_D2P, K5 HDMI_D0M, K6 HDMI_D0P, L7 HDMI_VP, M7 HDMI_VPH
part L pins: C2 JTAG_TRSTB, C3 JTAG_TMS, G5 JTAG_TDI, G6 JTAG_TDO, H5 JTAG_TCK, H6 JTAG_MOD, J7 NVCC_JTAG
part M pins: AA1 LVDS1_TX1_P, AA2 LVDS1_TX1_N, AA3 LVDS1_TX3_N, AA4 LVDS1_TX3_P, AB1 LVDS1_TX2_N, AB2 LVDS1_TX2_P, U1 LVDS0_TX0_P, U2 LVDS0_TX0_N, U3 LVDS0_TX1_P, U4 LVDS0_TX1_N, V1 LVDS0_TX2_P, V2 LVDS0_TX2_N, V3 LVDS0_CLK_P, V4 LVDS0_CLK_N, V7 NVCC_LVDS2P5, W1 LVDS0_TX3_P, W2 LVDS0_TX3_N, Y1 LVDS1_TX0_N, Y2 LVDS1_TX0_P, Y3 LVDS1_CLK_N, Y4 LVDS1_CLK_P
part N pins: A16 NANDF_ALE, A17 NANDF_CS2, A18 NANDF_D0, A19 NANDF_D4, A20 SD4_DAT3, B16 NANDF_RB0, B17 SD4_CMD, B18 NANDF_D5, B19 SD4_DAT1, B20 SD4_DAT6, C15 NANDF_CLE, C16 NANDF_CS1, C17 NANDF_D1, C18 NANDF_D7, C19 SD4_DAT5, D16 NANDF_CS3, D17 NANDF_D3, D18 SD4_DAT0, D19 SD4_DAT7, E15 NANDF_WP_B, E16 SD4_CLK, E17 NANDF_D6, E18 SD4_DAT4, F15 NANDF_CS0, F16 NANDF_D2, F17 SD4_DAT2, G15 NVCC_NANDF
part O pins: A2 PCIE_REXT, A3 PCIE_TXM, B1 PCIE_RXM, B2 PCIE_RXP, B3 PCIE_TXP, G7 PCIE_VPH, G8 PCIE_VPTX, H7 PCIE_VP
part P pins: A6 USB_OTG_DP, B6 USB_OTG_DN, B8 USB_OTG_CHD_B, D10 USB_H1_VBUS, E9 USB_OTG_VBUS, E10 USB_H1_DP, F10 USB_H1_DN
part Q pins: A24 RGMII_TD3, B23 RGMII_RD1, B24 RGMII_RD2, B25 RGMII_RXC, C22 RGMII_TD0, C23 RGMII_TX_CTL, C24 RGMII_RD0, D21 RGMII_TXC, D22 RGMII_RX_CTL, D23 RGMII_RD3, E21 RGMII_TD2, F20 RGMII_TD1, G18 NVCC_RGMII
part R pins: A21 SD1_DAT0, B21 SD1_CMD, C20 SD1_DAT1, D20 SD1_CLK, E19 SD1_DAT2, F18 SD1_DAT3, G16 NVCC_SD1
part S pins: A22 SD2_DAT0, A23 SD2_DAT2, B22 SD2_DAT3, C21 SD2_CLK, E20 SD2_DAT1, F19 SD2_CMD, G17 NVCC_SD2
part T pins: A15 SD3_DAT2, B13 SD3_CMD, B15 SD3_DAT3, C13 SD3_DAT5, D13 SD3_DAT4, D14 SD3_CLK, D15 SD3_RST, E13 SD3_DAT6, E14 SD3_DAT0, F13 SD3_DAT7, F14 SD3_DAT1, G14 NVCC_SD3
part U pins: AA5 DRAM_D3, AA6 DRAM_D10, AA8 DRAM_D17, AA9 DRAM_D23, AA11 DRAM_SDCKE1, AA12 DRAM_A14, AA14 DRAM_A2, AA15 DRAM_A10, AA17 DRAM_D32, AA18 DRAM_D33, AA20 DRAM_D45, AA21 DRAM_D57, AA23 DRAM_D61, AA24 DRAM_SDQS7_B, AA25 DRAM_SDQS7, AB4 DRAM_D6, AB5 DRAM_D12, AB6 DRAM_D14, AB7 DRAM_D16, AB8 DRAM_DQM2, AB9 DRAM_D18, AB10 DRAM_SDQS3_B, AB11 DRAM_D27, AB12 DRAM_SDBA2, AB13 DRAM_A8, AB14 DRAM_A1, AB15 DRAM_RAS, AB16 DRAM_SDWE, AB17 DRAM_SDODT1, AB18 DRAM_DQM4, AB19 DRAM_D38, AB20 DRAM_D41, AB21 DRAM_D42, AB22 DRAM_D52, AB23 DRAM_D60, AB25 DRAM_D56, AC1 DRAM_D4, AC2 DRAM_VREF, AC3 DRAM_DQM0, AC4 DRAM_D2, AC5 DRAM_D13, AC6 DRAM_DQM1, AC7 DRAM_D15, AC8 DRAM_D22, AC9 DRAM_D28, AC10 DRAM_SDQS3, AC11 DRAM_D31, AC12 DRAM_A11, AC13 DRAM_A6, AC14 DRAM_A0, AC15 DRAM_SDBA0, AC16 DRAM_SDODT0, AC17 DRAM_A13, AC18 DRAM_D34, AC19 DRAM_D39, AC20 DRAM_DQM5, AC21 DRAM_D47, AC22 DRAM_D48, AC23 DRAM_D53, AC24 DRAM_D51, AC25 DRAM_D55, AD1 DRAM_D5, AD2 DRAM_D0, AD3 DRAM_SDQS0_B, AD5 DRAM_D8, AD6 DRAM_SDQS1, AD8 DRAM_SDQS2, AD9 DRAM_D29, AD11 DRAM_D30, AD12 DRAM_A12, AD14 DRAM_SDCLK_1, AD15 DRAM_SDCLK_0, AD17 DRAM_CS1, AD18 DRAM_SDQS4, AD20 DRAM_SDQS5, AD21 DRAM_D43, AD23 DRAM_SDQS6, AD24 DRAM_DQM6, AD25 DRAM_D54, AE2 DRAM_D1, AE3 DRAM_SDQS0, AE4 DRAM_D7, AE5 DRAM_D9, AE6 DRAM_SDQS1_B, AE7 DRAM_D11, AE8 DRAM_SDQS2_B, AE9 DRAM_D24, AE10 DRAM_DQM3, AE11 DRAM_D26, AE12 DRAM_A9, AE13 DRAM_A5, AE14 DRAM_SDCLK_1_B, AE15 DRAM_SDCLK_0_B, AE16 DRAM_CAS, AE17 ZQPAD, AE18 DRAM_SDQS4_B, AE19 DRAM_D35, AE20 DRAM_SDQS5_B, AE21 DRAM_D46, AE22 DRAM_D49, AE23 DRAM_SDQS6_B, AE24 DRAM_D50, R18 NVCC_DRAM, T18 NVCC_DRAM, U18 NVCC_DRAM, V9 NVCC_DRAM, V10 NVCC_DRAM, V11 NVCC_DRAM, V12 NVCC_DRAM, V13 NVCC_DRAM, V14 NVCC_DRAM, V15 NVCC_DRAM, V16 NVCC_DRAM, V17 NVCC_DRAM, V18 NVCC_DRAM, W14 DRAM_A4, W25 DRAM_D63, Y6 DRAM_RESET, Y7 DRAM_D20, Y8 DRAM_D21, Y9 DRAM_D19, Y10 DRAM_D25, Y11 DRAM_SDCKE0, Y12 DRAM_A15, Y13 DRAM_A7, Y14 DRAM_A3, Y15 DRAM_SDBA1, Y16 DRAM_CS0, Y17 DRAM_D36, Y18 DRAM_D37, Y19 DRAM_D40, Y20 DRAM_D44, Y21 DRAM_DQM7, Y22 DRAM_D59, Y23 DRAM_D62, Y25 DRAM_D58
part V pins: A7 XTALI, B7 XTALO
part W pins: C9 RTC_XTALO, D9 RTC_XTALI
part X pins: A12 SATA_TXP, A14 SATA_RXM, B12 SATA_TXM, B14 SATA_RXP, C14 SATA_REXT, G12 SATA_VPH, G13 SATA_VP
part A text: Power Management
part B text: Factory (NXP only)
part C text: Boot/Power Management
part D text: Clock; MediaLB
part E text: MIPI Camera
part F text: Camera
part G text: LCD Display
part H text: External memory
part I text: 10/100-Mbit Ethernet
part J text: GPIO
part K text: HDMI Display
part L text: JTAG Debug
part M text: LVDS Display
part N text: NAND Flash; SD/MMC
part O text: PCIe 2.0
part P text: HS USB2.0 Host; HS USB2.0 OTG
part Q text: Gigabit Ethernet
part R text: SD/MMC
part S text: SD/MMC
part T text: SD/MMC
part U text: DDR3/DDR3L/LPDDR2
part V text: Crystal Oscillator
part W text: RTC
part X text: SATA

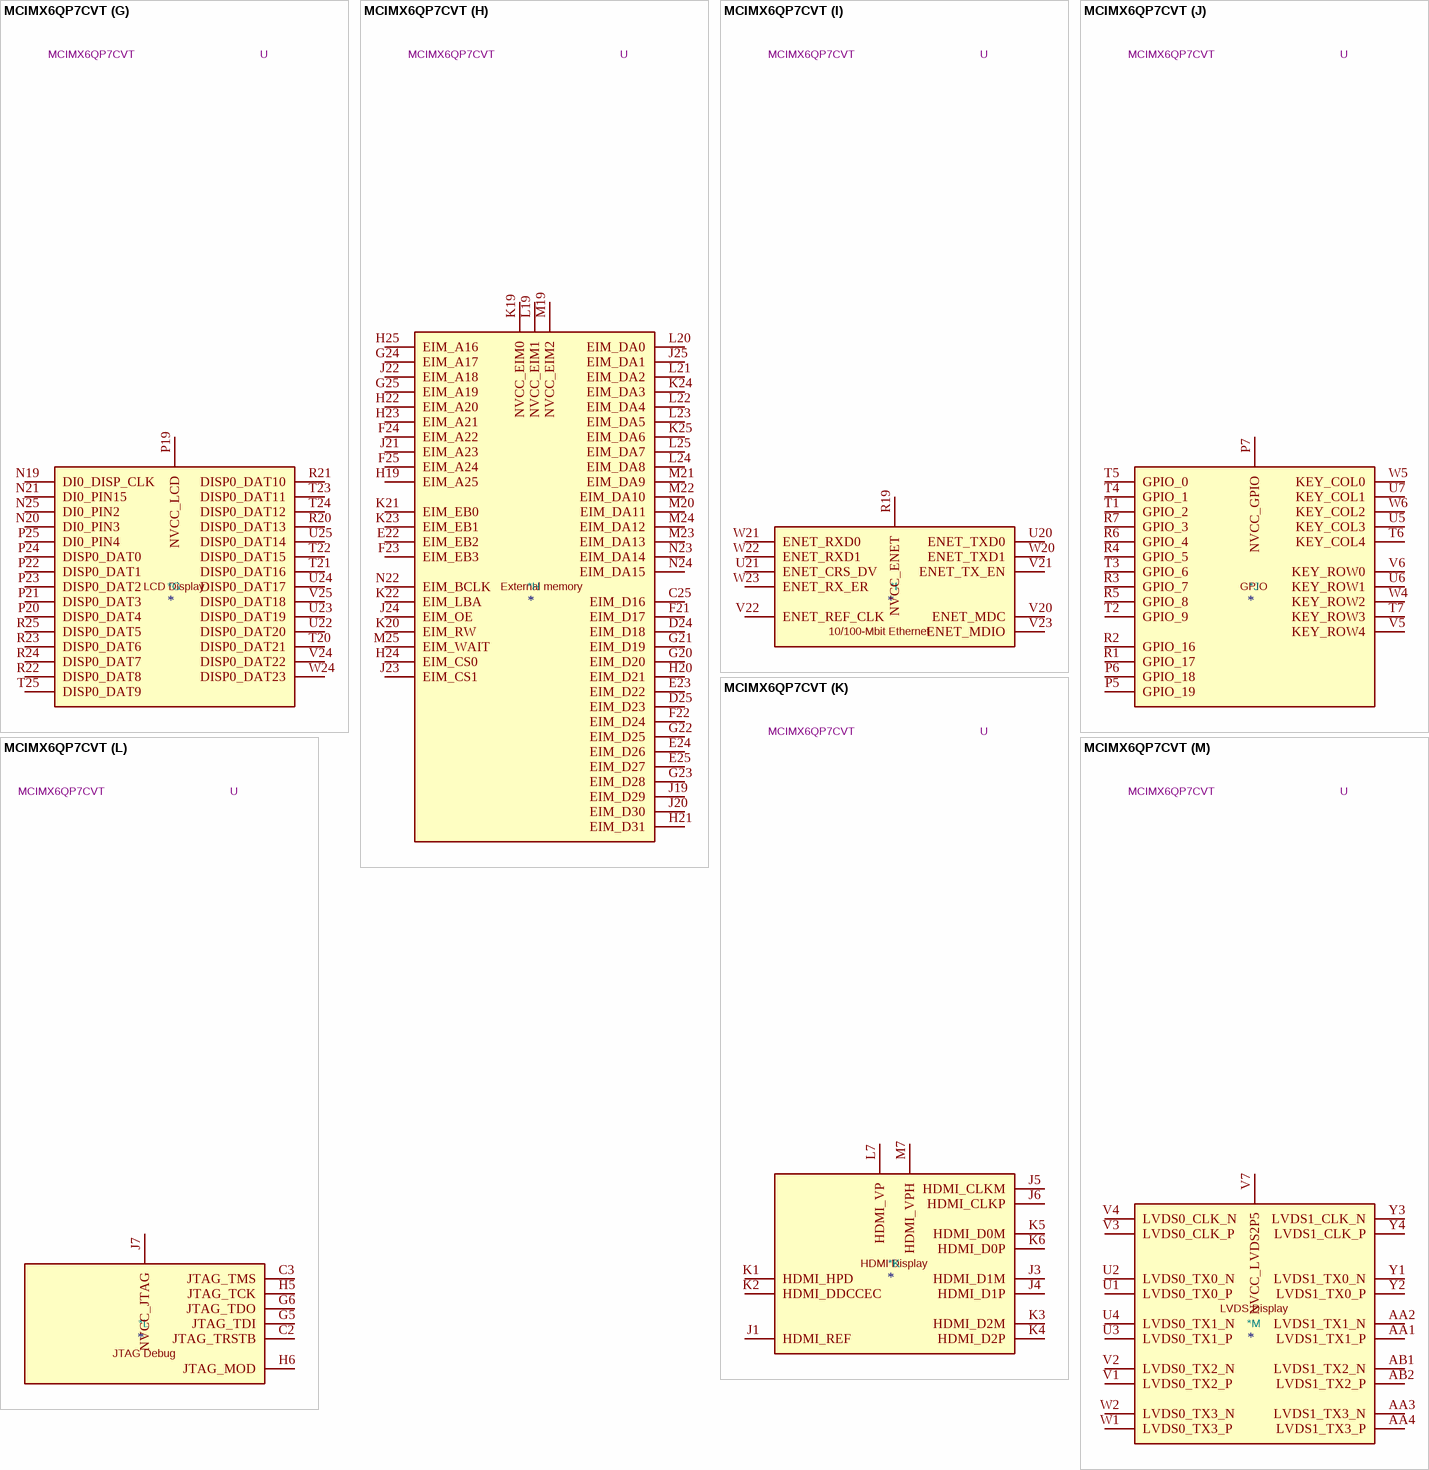
[diagram p52: symbol MCIMX6QP7CVT]

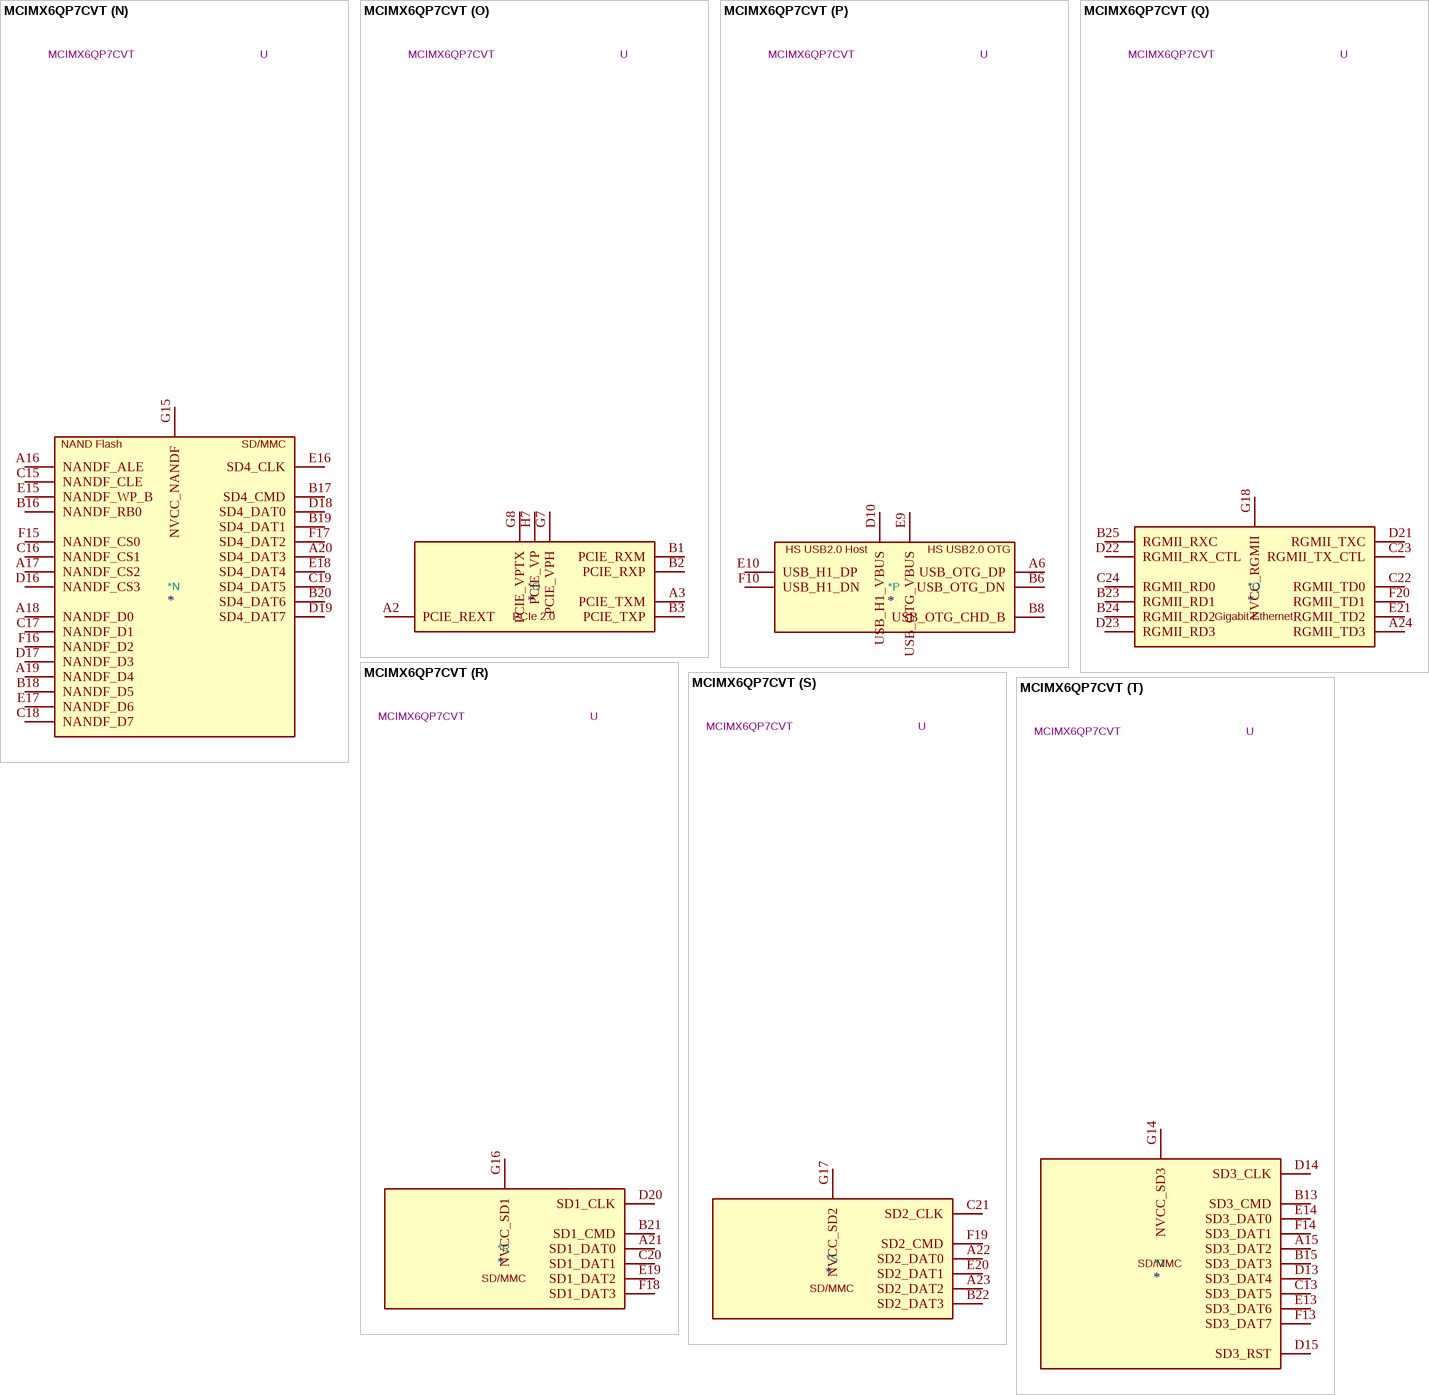
[diagram p53: symbol MCIMX6QP7CVT]

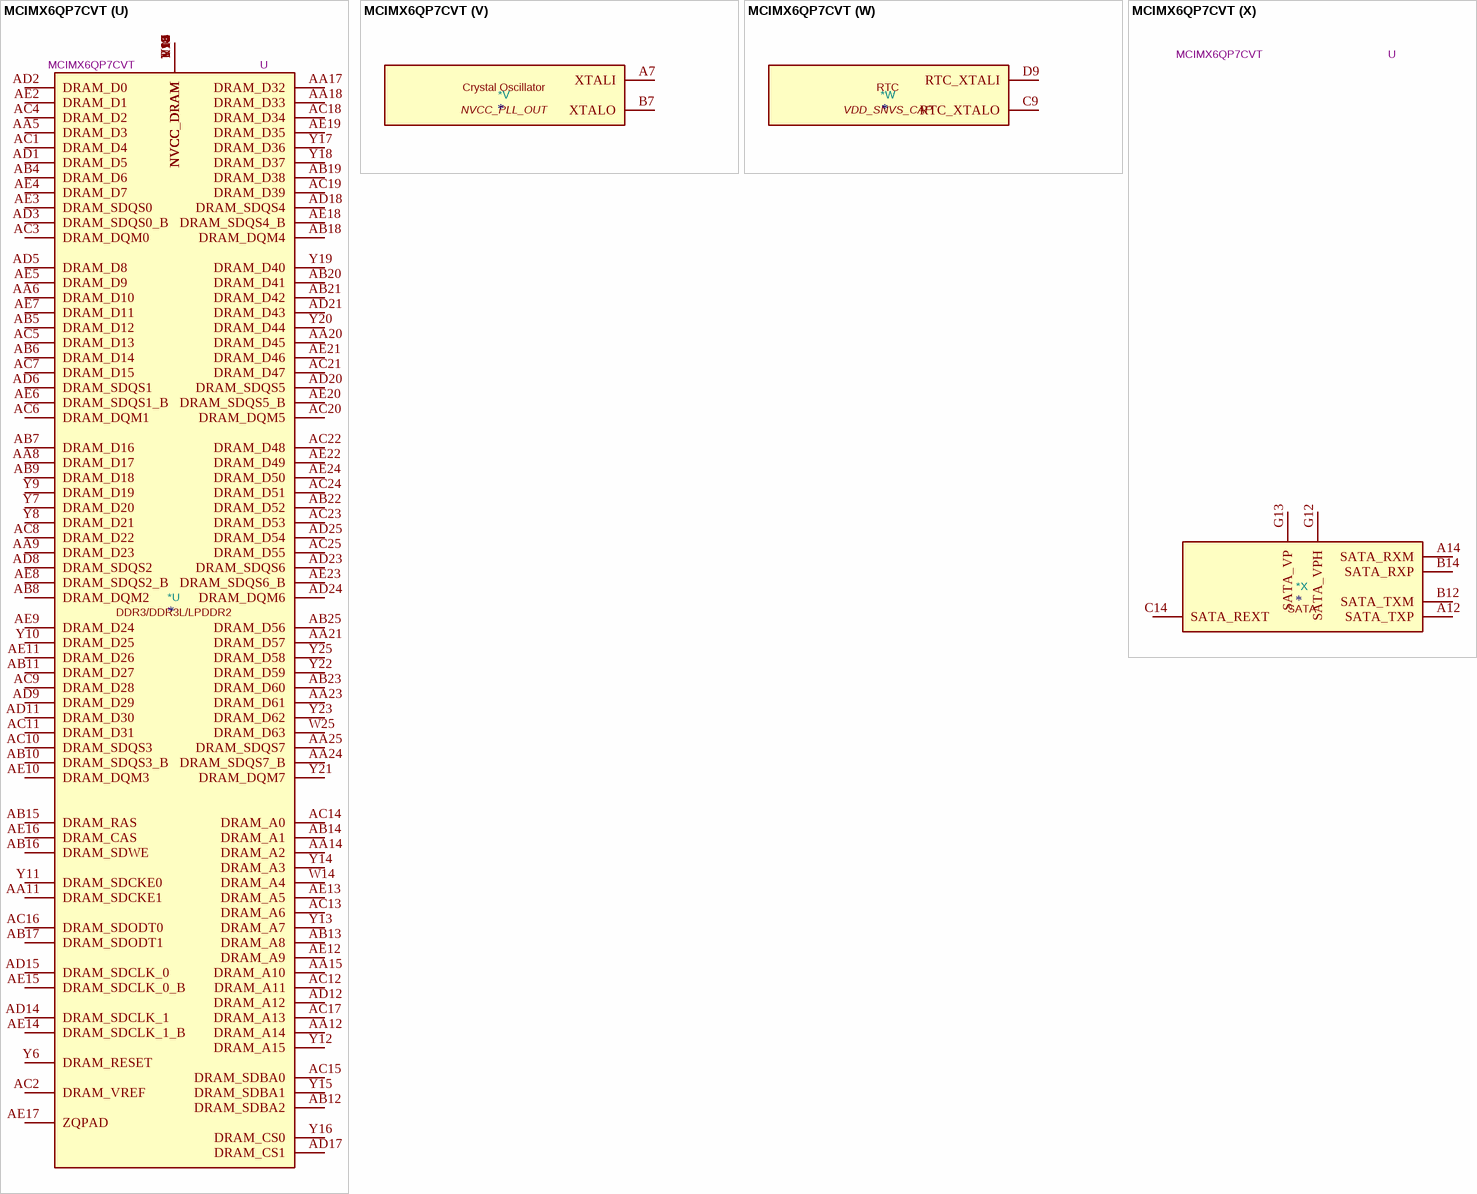
[diagram p54: symbol MCIMX6QP7CVT]

## MCIMX6QP7CVT
designator *  value MCIMX6QP7CVT  Reference: U
i.MX 6QuadPlus Application Processor for Industrial Products, BGA-624; ki_keywords: Quad-Core ARM Cortex A9 SOC Industrial; ki_fp_filters: BGA*21x21mm*Layout25x25*P0.8mm*; Footprint: Package_BGA:BGA-624_21x21mm_Layout25x25_P0.8mm; Datasheet: https://www.nxp.com/docs/en/data-sheet/IMX6DQPIEC.pdf; Description_: i.MX 6QuadPlus Application Processor for Industrial Products, BGA-624
part A pins: A4 GND, A8 GND, A13 GND, A25 GND, AA7 GND, AA10 GND, AA13 GND, AA16 GND, AA19 GND, AA22 GND, AB3 GND, AB24 GND, AD4 GND, AD7 GND, AD10 GND, AD13 GND, AD16 GND, AD19 GND, AD22 GND, AE1 GND, AE25 GND, B4 GND, C1 GND, C4 GND, C6 GND, C10 GND, D3 GND, D6 GND, D8 GND, E5 GND, E6 GND, E7 GND, E8 NVCC_PLL_OUT, F5 GND, F6 GND, F7 GND, F8 GND, F9 VDD_USB_CAP, G3 GND, G9 VDD_SNVS_CAP, G10 GND, G11 VDD_SNVS_IN, G19 GND, H8 GND, H9 VDD_HIGH_IN, H10 VDD_HIGH_CAP, H11 VDD_ARM23_CAP, H12 GND, H13 VDD_ARM_CAP, H14 VDD_ARM_IN, H15 GND, H16 VDD_SOC_IN, H17 VDD_PU_CAP, H18 GND, J2 GND, J8 GND, J9 VDD_HIGH_IN, J10 VDD_HIGH_CAP, J11 VDD_ARM23_CAP, J12 GND, J13 VDD_ARM_CAP, J14 VDD_ARM_IN, J15 GND, J16 VDD_SOC_IN, J17 VDD_PU_CAP, J18 GND, K8 GND, K9 VDD_ARM23_IN, K10 GND, K11 VDD_ARM23_CAP, K12 GND, K13 VDD_ARM_CAP, K14 VDD_ARM_IN, K15 GND, K16 VDD_SOC_IN, K17 VDD_PU_CAP, K18 GND, L2 GND, L5 GND, L8 GND, L9 VDD_ARM23_IN, L10 GND, L11 VDD_ARM23_CAP, L12 GND, L13 VDD_ARM_CAP, L14 VDD_ARM_IN, L15 GND, L16 VDD_SOC_IN, L17 VDD_PU_CAP, L18 GND, M8 GND, M9 VDD_ARM23_IN, M10 GND, M11 VDD_ARM23_CAP, M12 GND, M13 VDD_ARM_CAP, M14 VDD_ARM_IN, M15 GND, M16 VDD_SOC_IN, M17 VDD_PU_CAP, M18 GND, N8 GND, N9 VDD_ARM23_IN, N10 GND, N11 VDD_ARM23_CAP, N12 VDD_CACHE_CAP, N13 VDD_ARM_CAP, N14 VDD_ARM_IN, N15 GND, N16 VDD_SOC_IN, N17 VDD_PU_CAP, N18 GND, P8 GND, P9 VDD_ARM23_IN, P10 GND, P11 VDD_ARM23_CAP, P12 GND, P13 VDD_ARM_CAP, P14 VDD_ARM_IN, P15 GND, P16 VDD_SOC_IN, P17 VDD_PU_CAP, P18 GND, R8 GND, R9 VDD_ARM23_IN, R10 VDD_SOC_CAP, R11 VDD_ARM23_CAP, R12 GND, R13 VDD_ARM_CAP, R14 VDD_ARM_IN, R15 GND, R16 VDD_SOC_IN, R17 GND, T8 GND, T9 VDD_ARM23_IN, T10 VDD_SOC_CAP, T11 GND, T12 GND, T13 VDD_SOC_CAP, T14 VDD_SOC_CAP, T15 GND, T16 VDD_SOC_IN, T17 GND, T19 GND, U8 GND, U9 VDD_ARM23_IN, U10 VDD_SOC_CAP, U11 GND, U12 GND, U13 VDD_SOC_CAP, U14 VDD_SOC_CAP, U15 GND, U16 VDD_SOC_IN, U17 GND, U19 GND, V8 GND, V19 GND, W3 GND, W7 GND, W8 GND, W9 GND, W10 GND, W11 GND, W12 GND, W13 GND, W15 GND, W16 GND, W17 GND, W18 GND, W19 GND, Y5 GND, Y24 GND
part B pins: A5 FA_ANA, B5 VDD_FA, C8 GPANAIO, E12 TEST_MODE
part C pins: C11 POR_B, C12 BOOT_MODE0, D11 PMIC_ON_REQ, D12 ONOFF, E11 TAMPER, F11 PMIC_STBY_REQ, F12 BOOT_MODE1
part D pins: A9 NC, A10 NC, A11 NC, B9 NC, B10 NC, B11 NC, C5 CLK2_N, C7 CLK1_N, D5 CLK2_P, D7 CLK1_P
part E pins: D1 CSI_D1M, D2 CSI_D1P, D4 CSI_REXT, E1 CSI_D2M, E2 CSI_D2P, E3 CSI_D0P, E4 CSI_D0M, F1 CSI_D3P, F2 CSI_D3M, F3 CSI_CLK0P, F4 CSI_CLK0M, G1 DSI_D0P, G2 DSI_D0M, G4 DSI_REXT, H1 DSI_D1P, H2 DSI_D1M, H3 DSI_CLK0M, H4 DSI_CLK0P, K7 NVCC_MIPI
part F pins: L1 CSI0_DAT13, L3 CSI0_DAT17, L4 CSI0_DAT16, L6 CSI0_DAT19, M1 CSI0_DAT10, M2 CSI0_DAT12, M3 CSI0_DAT11, M4 CSI0_DAT14, M5 CSI0_DAT15, M6 CSI0_DAT18, N1 CSI0_DAT4, N2 CSI0_VSYNC, N3 CSI0_DAT7, N4 CSI0_DAT6, N5 CSI0_DAT9, N6 CSI0_DAT8, N7 NVCC_CSI, P1 CSI0_PIXCLK, P2 CSI0_DAT5, P3 CSI0_DATA_EN, P4 CSI0_MCLK
part G pins: N19 DI0_DISP_CLK, N20 DI0_PIN3, N21 DI0_PIN15, N25 DI0_PIN2, P19 NVCC_LCD, P20 DISP0_DAT4, P21 DISP0_DAT3, P22 DISP0_DAT1, P23 DISP0_DAT2, P24 DISP0_DAT0, P25 DI0_PIN4, R20 DISP0_DAT13, R21 DISP0_DAT10, R22 DISP0_DAT8, R23 DISP0_DAT6, R24 DISP0_DAT7, R25 DISP0_DAT5, T20 DISP0_DAT21, T21 DISP0_DAT16, T22 DISP0_DAT15, T23 DISP0_DAT11, T24 DISP0_DAT12, T25 DISP0_DAT9, U22 DISP0_DAT20, U23 DISP0_DAT19, U24 DISP0_DAT17, U25 DISP0_DAT14, V24 DISP0_DAT22, V25 DISP0_DAT18, W24 DISP0_DAT23
part H pins: C25 EIM_D16, D24 EIM_D18, D25 EIM_D23, E22 EIM_EB2, E23 EIM_D22, E24 EIM_D26, E25 EIM_D27, F21 EIM_D17, F22 EIM_D24, F23 EIM_EB3, F24 EIM_A22, F25 EIM_A24, G20 EIM_D20, G21 EIM_D19, G22 EIM_D25, G23 EIM_D28, G24 EIM_A17, G25 EIM_A19, H19 EIM_A25, H20 EIM_D21, H21 EIM_D31, H22 EIM_A20, H23 EIM_A21, H24 EIM_CS0, H25 EIM_A16, J19 EIM_D29, J20 EIM_D30, J21 EIM_A23, J22 EIM_A18, J23 EIM_CS1, J24 EIM_OE, J25 EIM_DA1, K19 NVCC_EIM0, K20 EIM_RW, K21 EIM_EB0, K22 EIM_LBA, K23 EIM_EB1, K24 EIM_DA3, K25 EIM_DA6, L19 NVCC_EIM1, L20 EIM_DA0, L21 EIM_DA2, L22 EIM_DA4, L23 EIM_DA5, L24 EIM_DA8, L25 EIM_DA7, M19 NVCC_EIM2, M20 EIM_DA11, M21 EIM_DA9, M22 EIM_DA10, M23 EIM_DA13, M24 EIM_DA12, M25 EIM_WAIT, N22 EIM_BCLK, N23 EIM_DA14, N24 EIM_DA15
part I pins: R19 NVCC_ENET, U20 ENET_TXD0, U21 ENET_CRS_DV, V20 ENET_MDC, V21 ENET_TX_EN, V22 ENET_REF_CLK, V23 ENET_MDIO, W20 ENET_TXD1, W21 ENET_RXD0, W22 ENET_RXD1, W23 ENET_RX_ER
part J pins: P5 GPIO_19, P6 GPIO_18, P7 NVCC_GPIO, R1 GPIO_17, R2 GPIO_16, R3 GPIO_7, R4 GPIO_5, R5 GPIO_8, R6 GPIO_4, R7 GPIO_3, T1 GPIO_2, T2 GPIO_9, T3 GPIO_6, T4 GPIO_1, T5 GPIO_0, T6 KEY_COL4, T7 KEY_ROW3, U5 KEY_COL3, U6 KEY_ROW1, U7 KEY_COL1, V5 KEY_ROW4, V6 KEY_ROW0, W4 KEY_ROW2, W5 KEY_COL0, W6 KEY_COL2
part K pins: J1 HDMI_REF, J3 HDMI_D1M, J4 HDMI_D1P, J5 HDMI_CLKM, J6 HDMI_CLKP, K1 HDMI_HPD, K2 HDMI_DDCCEC, K3 HDMI_D2M, K4 HDMI_D2P, K5 HDMI_D0M, K6 HDMI_D0P, L7 HDMI_VP, M7 HDMI_VPH
part L pins: C2 JTAG_TRSTB, C3 JTAG_TMS, G5 JTAG_TDI, G6 JTAG_TDO, H5 JTAG_TCK, H6 JTAG_MOD, J7 NVCC_JTAG
part M pins: AA1 LVDS1_TX1_P, AA2 LVDS1_TX1_N, AA3 LVDS1_TX3_N, AA4 LVDS1_TX3_P, AB1 LVDS1_TX2_N, AB2 LVDS1_TX2_P, U1 LVDS0_TX0_P, U2 LVDS0_TX0_N, U3 LVDS0_TX1_P, U4 LVDS0_TX1_N, V1 LVDS0_TX2_P, V2 LVDS0_TX2_N, V3 LVDS0_CLK_P, V4 LVDS0_CLK_N, V7 NVCC_LVDS2P5, W1 LVDS0_TX3_P, W2 LVDS0_TX3_N, Y1 LVDS1_TX0_N, Y2 LVDS1_TX0_P, Y3 LVDS1_CLK_N, Y4 LVDS1_CLK_P
part N pins: A16 NANDF_ALE, A17 NANDF_CS2, A18 NANDF_D0, A19 NANDF_D4, A20 SD4_DAT3, B16 NANDF_RB0, B17 SD4_CMD, B18 NANDF_D5, B19 SD4_DAT1, B20 SD4_DAT6, C15 NANDF_CLE, C16 NANDF_CS1, C17 NANDF_D1, C18 NANDF_D7, C19 SD4_DAT5, D16 NANDF_CS3, D17 NANDF_D3, D18 SD4_DAT0, D19 SD4_DAT7, E15 NANDF_WP_B, E16 SD4_CLK, E17 NANDF_D6, E18 SD4_DAT4, F15 NANDF_CS0, F16 NANDF_D2, F17 SD4_DAT2, G15 NVCC_NANDF
part O pins: A2 PCIE_REXT, A3 PCIE_TXM, B1 PCIE_RXM, B2 PCIE_RXP, B3 PCIE_TXP, G7 PCIE_VPH, G8 PCIE_VPTX, H7 PCIE_VP
part P pins: A6 USB_OTG_DP, B6 USB_OTG_DN, B8 USB_OTG_CHD_B, D10 USB_H1_VBUS, E9 USB_OTG_VBUS, E10 USB_H1_DP, F10 USB_H1_DN
part Q pins: A24 RGMII_TD3, B23 RGMII_RD1, B24 RGMII_RD2, B25 RGMII_RXC, C22 RGMII_TD0, C23 RGMII_TX_CTL, C24 RGMII_RD0, D21 RGMII_TXC, D22 RGMII_RX_CTL, D23 RGMII_RD3, E21 RGMII_TD2, F20 RGMII_TD1, G18 NVCC_RGMII
part R pins: A21 SD1_DAT0, B21 SD1_CMD, C20 SD1_DAT1, D20 SD1_CLK, E19 SD1_DAT2, F18 SD1_DAT3, G16 NVCC_SD1
part S pins: A22 SD2_DAT0, A23 SD2_DAT2, B22 SD2_DAT3, C21 SD2_CLK, E20 SD2_DAT1, F19 SD2_CMD, G17 NVCC_SD2
part T pins: A15 SD3_DAT2, B13 SD3_CMD, B15 SD3_DAT3, C13 SD3_DAT5, D13 SD3_DAT4, D14 SD3_CLK, D15 SD3_RST, E13 SD3_DAT6, E14 SD3_DAT0, F13 SD3_DAT7, F14 SD3_DAT1, G14 NVCC_SD3
part U pins: AA5 DRAM_D3, AA6 DRAM_D10, AA8 DRAM_D17, AA9 DRAM_D23, AA11 DRAM_SDCKE1, AA12 DRAM_A14, AA14 DRAM_A2, AA15 DRAM_A10, AA17 DRAM_D32, AA18 DRAM_D33, AA20 DRAM_D45, AA21 DRAM_D57, AA23 DRAM_D61, AA24 DRAM_SDQS7_B, AA25 DRAM_SDQS7, AB4 DRAM_D6, AB5 DRAM_D12, AB6 DRAM_D14, AB7 DRAM_D16, AB8 DRAM_DQM2, AB9 DRAM_D18, AB10 DRAM_SDQS3_B, AB11 DRAM_D27, AB12 DRAM_SDBA2, AB13 DRAM_A8, AB14 DRAM_A1, AB15 DRAM_RAS, AB16 DRAM_SDWE, AB17 DRAM_SDODT1, AB18 DRAM_DQM4, AB19 DRAM_D38, AB20 DRAM_D41, AB21 DRAM_D42, AB22 DRAM_D52, AB23 DRAM_D60, AB25 DRAM_D56, AC1 DRAM_D4, AC2 DRAM_VREF, AC3 DRAM_DQM0, AC4 DRAM_D2, AC5 DRAM_D13, AC6 DRAM_DQM1, AC7 DRAM_D15, AC8 DRAM_D22, AC9 DRAM_D28, AC10 DRAM_SDQS3, AC11 DRAM_D31, AC12 DRAM_A11, AC13 DRAM_A6, AC14 DRAM_A0, AC15 DRAM_SDBA0, AC16 DRAM_SDODT0, AC17 DRAM_A13, AC18 DRAM_D34, AC19 DRAM_D39, AC20 DRAM_DQM5, AC21 DRAM_D47, AC22 DRAM_D48, AC23 DRAM_D53, AC24 DRAM_D51, AC25 DRAM_D55, AD1 DRAM_D5, AD2 DRAM_D0, AD3 DRAM_SDQS0_B, AD5 DRAM_D8, AD6 DRAM_SDQS1, AD8 DRAM_SDQS2, AD9 DRAM_D29, AD11 DRAM_D30, AD12 DRAM_A12, AD14 DRAM_SDCLK_1, AD15 DRAM_SDCLK_0, AD17 DRAM_CS1, AD18 DRAM_SDQS4, AD20 DRAM_SDQS5, AD21 DRAM_D43, AD23 DRAM_SDQS6, AD24 DRAM_DQM6, AD25 DRAM_D54, AE2 DRAM_D1, AE3 DRAM_SDQS0, AE4 DRAM_D7, AE5 DRAM_D9, AE6 DRAM_SDQS1_B, AE7 DRAM_D11, AE8 DRAM_SDQS2_B, AE9 DRAM_D24, AE10 DRAM_DQM3, AE11 DRAM_D26, AE12 DRAM_A9, AE13 DRAM_A5, AE14 DRAM_SDCLK_1_B, AE15 DRAM_SDCLK_0_B, AE16 DRAM_CAS, AE17 ZQPAD, AE18 DRAM_SDQS4_B, AE19 DRAM_D35, AE20 DRAM_SDQS5_B, AE21 DRAM_D46, AE22 DRAM_D49, AE23 DRAM_SDQS6_B, AE24 DRAM_D50, R18 NVCC_DRAM, T18 NVCC_DRAM, U18 NVCC_DRAM, V9 NVCC_DRAM, V10 NVCC_DRAM, V11 NVCC_DRAM, V12 NVCC_DRAM, V13 NVCC_DRAM, V14 NVCC_DRAM, V15 NVCC_DRAM, V16 NVCC_DRAM, V17 NVCC_DRAM, V18 NVCC_DRAM, W14 DRAM_A4, W25 DRAM_D63, Y6 DRAM_RESET, Y7 DRAM_D20, Y8 DRAM_D21, Y9 DRAM_D19, Y10 DRAM_D25, Y11 DRAM_SDCKE0, Y12 DRAM_A15, Y13 DRAM_A7, Y14 DRAM_A3, Y15 DRAM_SDBA1, Y16 DRAM_CS0, Y17 DRAM_D36, Y18 DRAM_D37, Y19 DRAM_D40, Y20 DRAM_D44, Y21 DRAM_DQM7, Y22 DRAM_D59, Y23 DRAM_D62, Y25 DRAM_D58
part V pins: A7 XTALI, B7 XTALO
part W pins: C9 RTC_XTALO, D9 RTC_XTALI
part X pins: A12 SATA_TXP, A14 SATA_RXM, B12 SATA_TXM, B14 SATA_RXP, C14 SATA_REXT, G12 SATA_VPH, G13 SATA_VP
part A text: Power Management
part B text: Factory (NXP only)
part C text: Boot/Power Management
part D text: Clock
part E text: MIPI Camera
part F text: Camera
part G text: LCD Display
part H text: External memory
part I text: 10/100-Mbit Ethernet
part J text: GPIO
part K text: HDMI Display
part L text: JTAG Debug
part M text: LVDS Display
part N text: NAND Flash; SD/MMC
part O text: PCIe 2.0
part P text: HS USB2.0 Host; HS USB2.0 OTG
part Q text: Gigabit Ethernet
part R text: SD/MMC
part S text: SD/MMC
part T text: SD/MMC
part U text: DDR3/DDR3L/LPDDR2
part V text: Crystal Oscillator
part W text: RTC
part X text: SATA